# EAGLE library part 74HCT2G04GV,125 (library PP_DigitalIC)
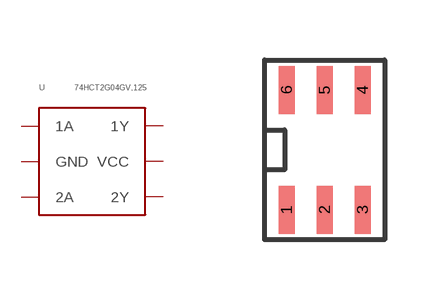
[diagram p18: symbol with the pads of TTSOP-6; footprint TTSOP-6]

Designator prefix U

## 74HCT2G04GV,125TTSOP-6  [TTSOP-6]
1  1A
2  GND
3  2A
4  2Y
5  VCC
6  1Y

## Footprint TTSOP-6 (pad centres in mm)
smd 0.4 x 1.2: 1 -0.95,-1.5; 2 0,-1.5; 3 0.95,-1.5; 4 0.95,1.5; 5 0,1.5; 6 -0.95,1.5